# EAGLE library part MD253 (library zz-m-pad-2.1)
MSytems mDOC H3 Embedded Flash Drive (EFD) featuring Embedded TrueFFS® Flash Management Software mDOC H3 is an Embedded Flash Drive (EFD) designed for mobile handsets and consumer electronics devices. mDOC H3 is the new generation of the successful msystems mDOC product family, enabling tens of millions of handsets and other mobile devices since the year 2000. mDOC H3 is a hybrid device combining an embedded thin flash controller and standard flash memory. In addition to the high reliability and high system performance offered by the current mDOC family of products, mDOC H3 offers plug-and-play integration, support for multiple NAND technologies and more features such as advanced power management schemes. mDOC H3 uses the most advanced Multi-Level Cell (MLC) and binary (SLC) NAND flash technologies, enhanced by msystems proprietary TrueFFS embedded flash management software running as firmware on the flash controller. The breakthrough in performance, size, cost and design makes mDOC H3 the ideal solution for mobile handsets and consumer electronics manufacturers who require easy integration, fast time to market, high-capacity, small form factor, high-performance and most importantly, high reliable storage. Please send any comments to: messi@users.sourceforge.net
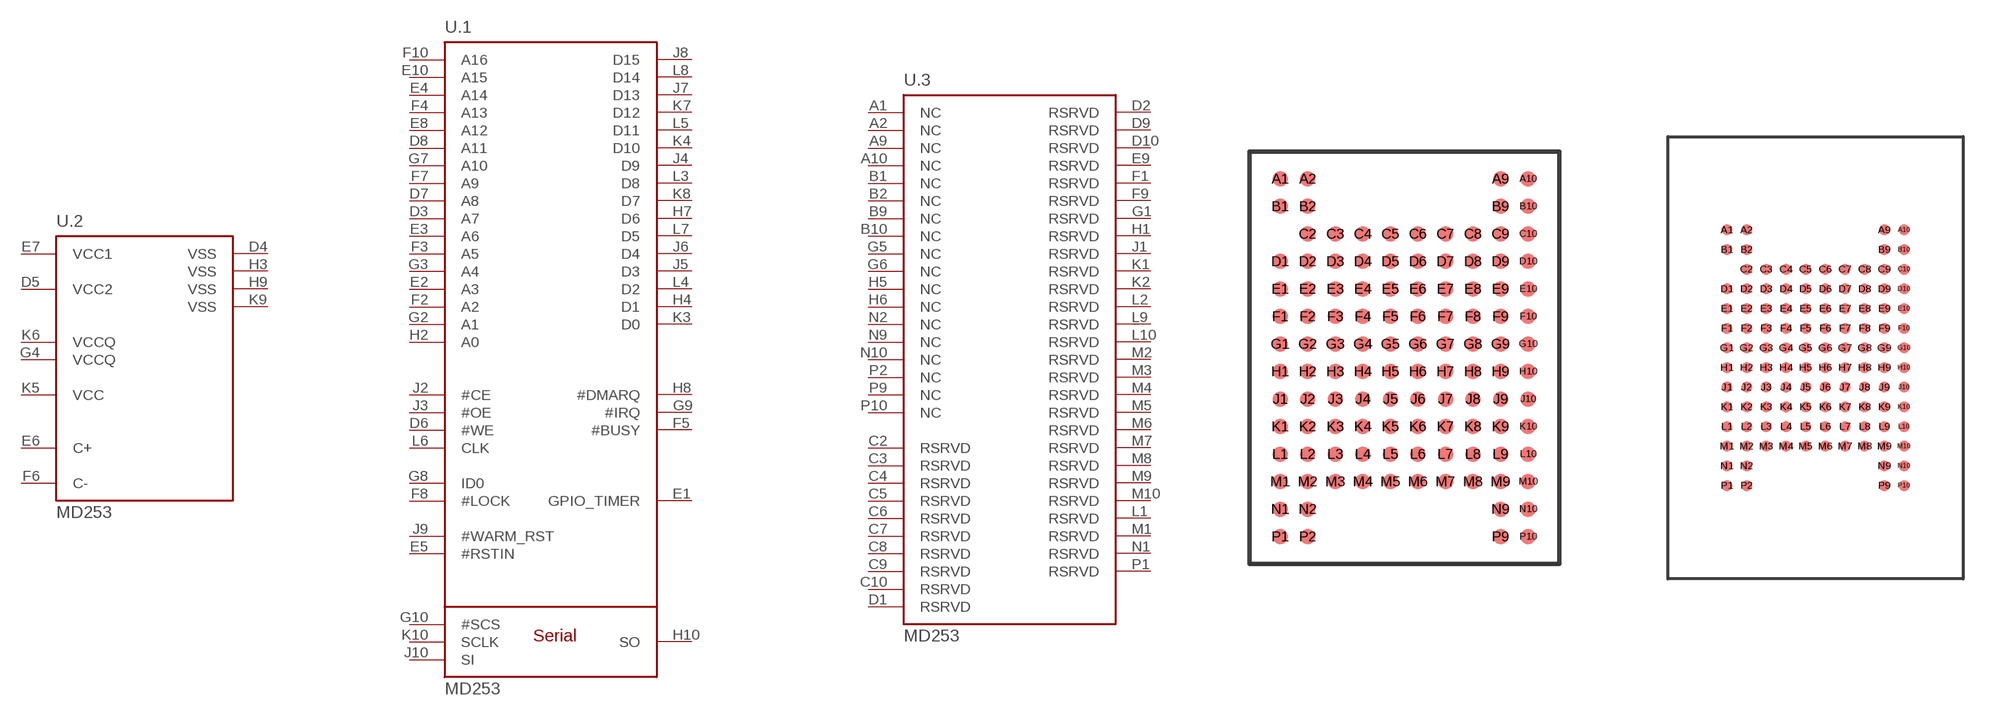
[diagram p182: symbol with the pads of 115FBGA; footprints 115FBGA, 115-FBGA]

Designator prefix U; gates .1=MD2533_MD2534 .2=MD2533_MD2534_PWR .3=MD2533_MD2534_NC

## MD2533-D**G-X-P  [115FBGA]
A1  .3:NC  nc
A2  .3:NC  nc
A9  .3:NC  nc
A10  .3:NC  nc
B1  .3:NC  nc
B2  .3:NC  nc
B9  .3:NC  nc
B10  .3:NC  nc
C2  .3:RSRVD  nc
C3  .3:RSRVD  nc
C4  .3:RSRVD  nc
C5  .3:RSRVD  nc
C6  .3:RSRVD  nc
C7  .3:RSRVD  nc
C8  .3:RSRVD  nc
C9  .3:RSRVD  nc
C10  .3:RSRVD  nc
D1  .3:RSRVD  nc
D2  .3:RSRVD  nc
D3  .1:A7  in
D4  .2:VSS  pwr
D5  .2:VCC2  pwr
D6  .1:#WE  in
D7  .1:A8  in
D8  .1:A11  in
D9  .3:RSRVD  nc
D10  .3:RSRVD  nc
E1  .1:GPIO_TIMER
E2  .1:A3  in
E3  .1:A6  in
E4  .1:A14  in
E5  .1:#RSTIN  in
E6  .2:C+  pwr
E7  .2:VCC1  pwr
E8  .1:A12  in
E9  .3:RSRVD  nc
E10  .1:A15  in
F1  .3:RSRVD  nc
F2  .1:A2  in
F3  .1:A5  in
F4  .1:A13  in
F5  .1:#BUSY  out
F6  .2:C-  pwr
F7  .1:A9  in
F8  .1:#LOCK  in
F9  .3:RSRVD  nc
F10  .1:A16  in
G1  .3:RSRVD  nc
G2  .1:A1  in
G3  .1:A4  in
G4  .2:VCCQ  pwr
G5  .3:NC  nc
G6  .3:NC  nc
G7  .1:A10  in
G8  .1:ID0  in
G9  .1:#IRQ  out
G10  .1:#SCS
H1  .3:RSRVD  nc
H2  .1:A0  in
H3  .2:VSS  pwr
H4  .1:D1
H5  .3:NC  nc
H6  .3:NC  nc
H7  .1:D6
H8  .1:#DMARQ  out
H9  .2:VSS  pwr
H10  .1:SO
J1  .3:RSRVD  nc
J2  .1:#CE  in
J3  .1:#OE  in
J4  .1:D9
J5  .1:D3
J6  .1:D4
J7  .1:D13
J8  .1:D15
J9  .1:#WARM_RST  in
J10  .1:SI
K1  .3:RSRVD  nc
K2  .3:RSRVD  nc
K3  .1:D0
K4  .1:D10
K5  .2:VCC  pwr
K6  .2:VCCQ  pwr
K7  .1:D12
K8  .1:D7
K9  .2:VSS  pwr
K10  .1:SCLK
L1  .3:RSRVD  nc
L2  .3:RSRVD  nc
L3  .1:D8
L4  .1:D2
L5  .1:D11
L6  .1:CLK  in
L7  .1:D5
L8  .1:D14
L9  .3:RSRVD  nc
L10  .3:RSRVD  nc
M1  .3:RSRVD  nc
M2  .3:RSRVD  nc
M3  .3:RSRVD  nc
M4  .3:RSRVD  nc
M5  .3:RSRVD  nc
M6  .3:RSRVD  nc
M7  .3:RSRVD  nc
M8  .3:RSRVD  nc
M9  .3:RSRVD  nc
M10  .3:RSRVD  nc
N1  .3:RSRVD  nc
N2  .3:NC  nc
N9  .3:NC  nc
N10  .3:NC  nc
P1  .3:RSRVD  nc
P2  .3:NC  nc
P9  .3:NC  nc
P10  .3:NC  nc

## MD2534-D**G-X-P  [115-FBGA]
Pads as for 115FBGA

## Footprint 115FBGA (pad centres in mm)
smd 0.45 x 0.45: A1 -3.6,5.2; A2 -2.8,5.2; A9 2.8,5.2; A10 3.6,5.2; B1 -3.6,4.4; B2 -2.8,4.4; B9 2.8,4.4; B10 3.6,4.4; C2 -2.8,3.6; C3 -2,3.6; C4 -1.2,3.6; C5 -0.4,3.6; C6 0.4,3.6; C7 1.2,3.6; C8 2,3.6; C9 2.8,3.6; C10 3.6,3.6; D1 -3.6,2.8; D2 -2.8,2.8; D3 -2,2.8; D4 -1.2,2.8; D5 -0.4,2.8; D6 0.4,2.8; D7 1.2,2.8; D8 2,2.8; D9 2.8,2.8; D10 3.6,2.8; E1 -3.6,2; E2 -2.8,2; E3 -2,2; E4 -1.2,2; E5 -0.4,2; E6 0.4,2; E7 1.2,2; E8 2,2; E9 2.8,2; E10 3.6,2; F1 -3.6,1.2; F2 -2.8,1.2; F3 -2,1.2; F4 -1.2,1.2; F5 -0.4,1.2; F6 0.4,1.2; F7 1.2,1.2; F8 2,1.2; F9 2.8,1.2; F10 3.6,1.2; G1 -3.6,0.4; G2 -2.8,0.4; G3 -2,0.4; G4 -1.2,0.4; G5 -0.4,0.4; G6 0.4,0.4; G7 1.2,0.4; G8 2,0.4; G9 2.8,0.4; G10 3.6,0.4; H1 -3.6,-0.4; H2 -2.8,-0.4; H3 -2,-0.4; H4 -1.2,-0.4; H5 -0.4,-0.4; H6 0.4,-0.4; H7 1.2,-0.4; H8 2,-0.4; H9 2.8,-0.4; H10 3.6,-0.4; J1 -3.6,-1.2; J2 -2.8,-1.2; J3 -2,-1.2; J4 -1.2,-1.2; J5 -0.4,-1.2; J6 0.4,-1.2; J7 1.2,-1.2; J8 2,-1.2; J9 2.8,-1.2; J10 3.6,-1.2; K1 -3.6,-2; K2 -2.8,-2; K3 -2,-2; K4 -1.2,-2; K5 -0.4,-2; K6 0.4,-2; K7 1.2,-2; K8 2,-2; K9 2.8,-2; K10 3.6,-2; L1 -3.6,-2.8; L2 -2.8,-2.8; L3 -2,-2.8; L4 -1.2,-2.8; L5 -0.4,-2.8; L6 0.4,-2.8; L7 1.2,-2.8; L8 2,-2.8; L9 2.8,-2.8; L10 3.6,-2.8; M1 -3.6,-3.6; M2 -2.8,-3.6; M3 -2,-3.6; M4 -1.2,-3.6; M5 -0.4,-3.6; M6 0.4,-3.6; M7 1.2,-3.6; M8 2,-3.6; M9 2.8,-3.6; M10 3.6,-3.6; N1 -3.6,-4.4; N2 -2.8,-4.4; N9 2.8,-4.4; N10 3.6,-4.4; P1 -3.6,-5.2; P2 -2.8,-5.2; P9 2.8,-5.2; P10 3.6,-5.2

## Footprint 115-FBGA (pad centres in mm)
M-Systems 115 FBGA for mDOC H3 4Gb (512MB)/8Gb (1GB)/ 16Gb (2GB)
smd 0.45 x 0.45: A1 -3.6,5.2; A2 -2.8,5.2; A9 2.8,5.2; A10 3.6,5.2; B1 -3.6,4.4; B2 -2.8,4.4; B9 2.8,4.4; B10 3.6,4.4; C2 -2.8,3.6; C3 -2,3.6; C4 -1.2,3.6; C5 -0.4,3.6; C6 0.4,3.6; C7 1.2,3.6; C8 2,3.6; C9 2.8,3.6; C10 3.6,3.6; D1 -3.6,2.8; D2 -2.8,2.8; D3 -2,2.8; D4 -1.2,2.8; D5 -0.4,2.8; D6 0.4,2.8; D7 1.2,2.8; D8 2,2.8; D9 2.8,2.8; D10 3.6,2.8; E1 -3.6,2; E2 -2.8,2; E3 -2,2; E4 -1.2,2; E5 -0.4,2; E6 0.4,2; E7 1.2,2; E8 2,2; E9 2.8,2; E10 3.6,2; F1 -3.6,1.2; F2 -2.8,1.2; F3 -2,1.2; F4 -1.2,1.2; F5 -0.4,1.2; F6 0.4,1.2; F7 1.2,1.2; F8 2,1.2; F9 2.8,1.2; F10 3.6,1.2; G1 -3.6,0.4; G2 -2.8,0.4; G3 -2,0.4; G4 -1.2,0.4; G5 -0.4,0.4; G6 0.4,0.4; G7 1.2,0.4; G8 2,0.4; G9 2.8,0.4; G10 3.6,0.4; H1 -3.6,-0.4; H2 -2.8,-0.4; H3 -2,-0.4; H4 -1.2,-0.4; H5 -0.4,-0.4; H6 0.4,-0.4; H7 1.2,-0.4; H8 2,-0.4; H9 2.8,-0.4; H10 3.6,-0.4; J1 -3.6,-1.2; J2 -2.8,-1.2; J3 -2,-1.2; J4 -1.2,-1.2; J5 -0.4,-1.2; J6 0.4,-1.2; J7 1.2,-1.2; J8 2,-1.2; J9 2.8,-1.2; J10 3.6,-1.2; K1 -3.6,-2; K2 -2.8,-2; K3 -2,-2; K4 -1.2,-2; K5 -0.4,-2; K6 0.4,-2; K7 1.2,-2; K8 2,-2; K9 2.8,-2; K10 3.6,-2; L1 -3.6,-2.8; L2 -2.8,-2.8; L3 -2,-2.8; L4 -1.2,-2.8; L5 -0.4,-2.8; L6 0.4,-2.8; L7 1.2,-2.8; L8 2,-2.8; L9 2.8,-2.8; L10 3.6,-2.8; M1 -3.6,-3.6; M2 -2.8,-3.6; M3 -2,-3.6; M4 -1.2,-3.6; M5 -0.4,-3.6; M6 0.4,-3.6; M7 1.2,-3.6; M8 2,-3.6; M9 2.8,-3.6; M10 3.6,-3.6; N1 -3.6,-4.4; N2 -2.8,-4.4; N9 2.8,-4.4; N10 3.6,-4.4; P1 -3.6,-5.2; P2 -2.8,-5.2; P9 2.8,-5.2; P10 3.6,-5.2